# Altium integrated library 5747845-4.IntLib: 1 symbol
Pins are listed as number, name and electrical type; pins without a type are passive.

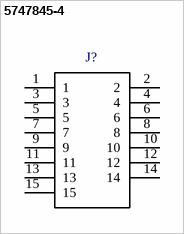
[diagram p0: symbol 5747845-4]

## 5747845-4
designator J?  (value not drawn)
Conn D-Subminiature SKT 15 POS 2.74mm Solder RA Thru-Hole 15 Terminal 1 Port Box; MF: TE Connectivity; Number_of_Positions: 15; Centerline_Pitch: 2.74 mm[.108 in]; Product_Type: Connector; Price: None; SnapEDA_Link: https://www.snapeda.com/parts/5747845-4/TE%20Connectivity%20AMP%20Connectors/view-part/?ref=snap; EU_RoHS_Compliance: Compliant; Availability: Unavailable; MP: 5747845-4; TE_purchase_URL: https://www.te.com/usa-en/product-5747845-4.html?te_bu=Cor&te_type=disp&te_campaign=seda_glo_cor-seda-global-disp-prtnr-fy19-seda-model-bom-cta_sma-317_1&elqCampaignId=32493; Package: None; Value: *
footprint *5747845-4
pins: 1, 2, 3, 4, 5, 6, 7, 8, 9, 10, 11, 12, 13, 14, 15